# EAGLE library part SHT21 (library integrated_circuits)
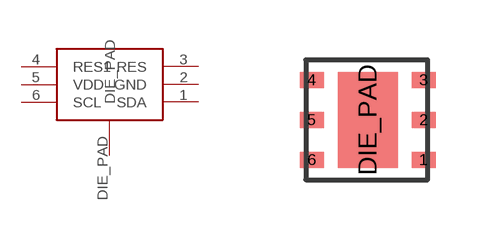
[diagram p1: symbol with the pads of SHT21; footprint SHT21]

Designator prefix -

## SHT21!  [SHT21]
1  SDA
2  GND
3  RES
4  RES1
5  VDD
6  SCL
DIE_PAD  DIE_PAD

## Footprint SHT21 (pad centres in mm)
smd 0.6 x 0.4: 1 1.4,-1; 2 1.4,0; 3 1.4,1; 4 -1.4,1; 5 -1.4,0; 6 -1.4,-1
smd 1.5 x 2.4: DIE_PAD 0,0